# Altium schematic symbol library SClib.SchLib: 10 symbols
Pins are listed as number, name and electrical type; pins without a type are passive.

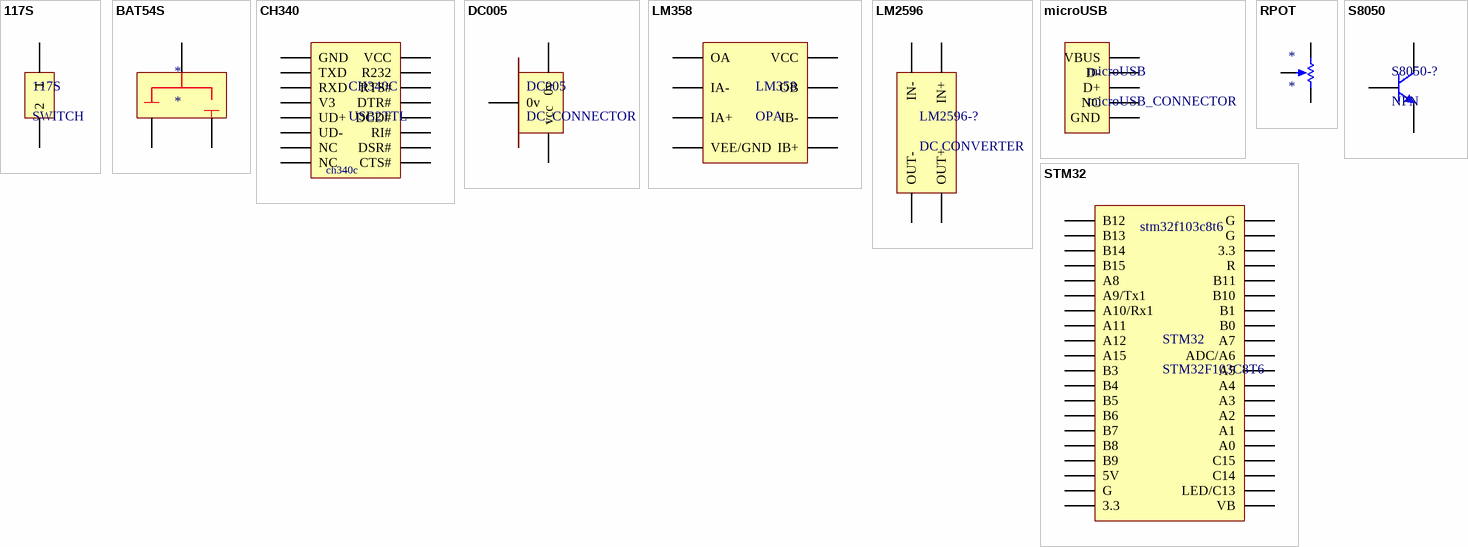
[diagram p0: symbols 117S to STM32]

## 117S
designator 117S, comment SWITCH
船形开关
pins: 1, 2

## BAT54S
designator *
肖特基二极管
footprint SOT-23 (贴片三极管)
pins: 1 GND, 2 VCC, 3 series

## CH340
designator CH340C, comment USB2TTL
电平转换芯片
pins: 1 GND, 2 TXD, 3 RXD, 4 V3, 5 UD+, 6 UD-, 7 NC, 8 NC, 9 CTS#, 10 DSR#, 11 RI#, 12 DCD#, 13 DTR#, 14 RTS#, 15 R232, 16 VCC
text: ch340c

## DC005
designator DC005, comment DC_CONNECTOR
直流电源插座
pins: 1 0v, 2 0v, 3 vcc

## LM358
designator LM358, comment OPA
集成运放
pins: 1 OA, 2 IA-, 3 IA+, 4 VEE/GND, 5 IB+, 6 IB-, 7 OB, 8 VCC

## LM2596
designator LM2596-?, comment DC CONVERTER
直流降压模块
pins: 1 IN-, 2 IN+, 3 OUT+, 4 OUT-

## microUSB
designator microUSB, comment microUSB_CONNECTOR
将microUSB转换成SIP接口
pins: 1 VBUS, 2 D-, 3 D+, 4 NC, 5 GND

## RPOT
designator *
精密电位计
footprint 3296W (精密电位计)
pins: 1 TOP, 2 TAP, 3 BOT

## S8050
designator S8050-?, comment NPN
NPN三极管
footprint SOT-23 (贴片三极管)
pins: 1 B, 2 E, 3 C

## STM32
designator STM32, comment STM32F103C8T6
单片机最小系统
pins: 1 B12, 2 B13, 3 B14, 4 B15, 5 A8, 6 A9/Tx1, 7 A10/Rx1, 8 A11, 9 A12, 10 A15, 11 B3, 12 B4, 13 B5, 14 B6, 15 B7, 16 B8, 17 B9, 18 5V, 19 G, 20 3.3, 21 VB, 22 LED/C13, 23 C14, 24 C15, 25 A0, 26 A1, 27 A2, 28 A3, 29 A4, 30 A5, 31 ADC/A6, 32 A7, 33 B0, 34 B1, 35 B10, 36 B11, 37 R, 38 3.3, 39 G, 40 G
text: stm32f103c8t6